# Altium footprint library RC1206FR-07470KL.PcbLib: 3 footprints
Each footprint in its own frame and in the unit in brackets; x right, y up, seen from the top. Pads: shape width x height; smd on the part's side, far side on the other; paste and mask are expansions set on the pad; w line width, h text height; cw(c..) or ccw(c..) is an arc to the next point about the centre after c.
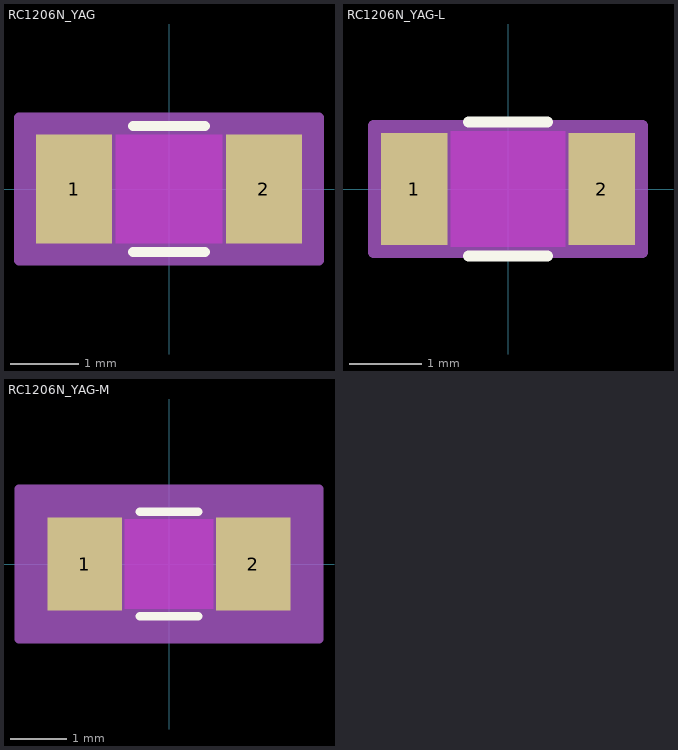
[diagram p0: the footprints below, top view; thin cyan lines are the x and y axes]

## RC1206N_YAG [mil]
pads (2):
  rect 44x63 smd paste+0 mask+0: 1(-55,0) 2(55,0)
Top Layer keep-out:
  region: -31,-29.5 -31,29.5 31,29.5 31,-29.5
Top Overlay:
  lines w6: -20.89,-36.5 20.89,-36.5 ; -20.89,36.5 20.89,36.5
  text ".Designator" at -137.5,-25 h50
Keep-Out Layer:
  region: -31,-31.5 -31,31.5 31,31.5 31,-31.5
Mechanical 13:
  lines w1: -63,-31.5 -63,31.5 ; -63,-31.5 -33,-31.5 -33,31.5 -63,31.5 ; -63,-31.5 63,-31.5 ; -63,-31.5 -63,31.5 ; -63,31.5 63,31.5 ; 63,-31.5 33,-31.5 33,31.5 63,31.5 ; 63,-31.5 63,31.5 ; 63,-31.5 63,31.5
  text ".Designator" at -137.5,-25 h50
Mechanical 15:
  region: 87,-41.5 -87,-41.5 -87,41.5 87,41.5
  lines w6: -87,-41.5 -87,41.5 87,41.5 87,-41.5 -87,-41.5
3D body "RC1206N_YAG.step": height 27.99, standoff 0, extent -62.99,-31.5 62.99,31.5

## RC1206N_YAG-L [mil]
pads (2):
  rect 36x61 smd paste+0 mask+0: 1(-51,0) 2(51,0)
Top Layer keep-out:
  region: -31,-29.5 -31,29.5 31,29.5 31,-29.5
Top Overlay:
  lines w6: -21.35,-36.5 21.35,-36.5 ; -21.35,36.5 21.35,36.5
  text ".Designator" at -137.5,-25 h50
Keep-Out Layer:
  region: -31,-31.5 -31,31.5 31,31.5 31,-31.5
Mechanical 13:
  lines w1: -63,-31.5 -63,31.5 ; -63,-31.5 -33,-31.5 -33,31.5 -63,31.5 ; -63,-31.5 63,-31.5 ; -63,-31.5 -63,31.5 ; -63,31.5 63,31.5 ; 63,-31.5 33,-31.5 33,31.5 63,31.5 ; 63,-31.5 63,31.5 ; 63,-31.5 63,31.5
  text ".Designator" at -137.5,-25 h50
Mechanical 15:
  region: 73,-34.5 -73,-34.5 -73,34.5 73,34.5
  lines w6: -73,-34.5 -73,34.5 73,34.5 73,-34.5 -73,-34.5
3D body "RC1206N_YAG.step": height 27.99, standoff 0, extent -62.99,-31.5 62.99,31.5

## RC1206N_YAG-M [mil]
pads (2):
  rect 52x65 smd paste+0 mask+0: 1(-59,0) 2(59,0)
Top Layer keep-out:
  region: -31,-29.5 -31,29.5 31,29.5 31,-29.5
Top Overlay:
  lines w6: -20.53,-36.5 20.53,-36.5 ; -20.53,36.5 20.53,36.5
  text ".Designator" at -137.5,-25 h50
Keep-Out Layer:
  region: -31,-31.5 -31,31.5 31,31.5 31,-31.5
Mechanical 13:
  lines w1: -63,-31.5 -63,31.5 ; -63,-31.5 -33,-31.5 -33,31.5 -63,31.5 ; -63,-31.5 63,-31.5 ; -63,-31.5 -63,31.5 ; -63,31.5 63,31.5 ; 63,-31.5 33,-31.5 33,31.5 63,31.5 ; 63,-31.5 63,31.5 ; 63,-31.5 63,31.5
  text ".Designator" at -137.5,-25 h50
Mechanical 15:
  region: 105,-52.5 -105,-52.5 -105,52.5 105,52.5
  lines w6: -105,-52.5 -105,52.5 105,52.5 105,-52.5 -105,-52.5
3D body "RC1206N_YAG.step": height 27.99, standoff 0, extent -62.99,-31.5 62.99,31.5